# Altium footprint library Inductors.PcbLib: 24 footprints (part 2 of 2)
Each footprint in its own frame and in the unit in brackets; x right, y up, seen from the top. Pads: shape width x height; smd on the part's side, far side on the other; paste and mask are expansions set on the pad; w line width, h text height; cw(c..) or ccw(c..) is an arc to the next point about the centre after c.
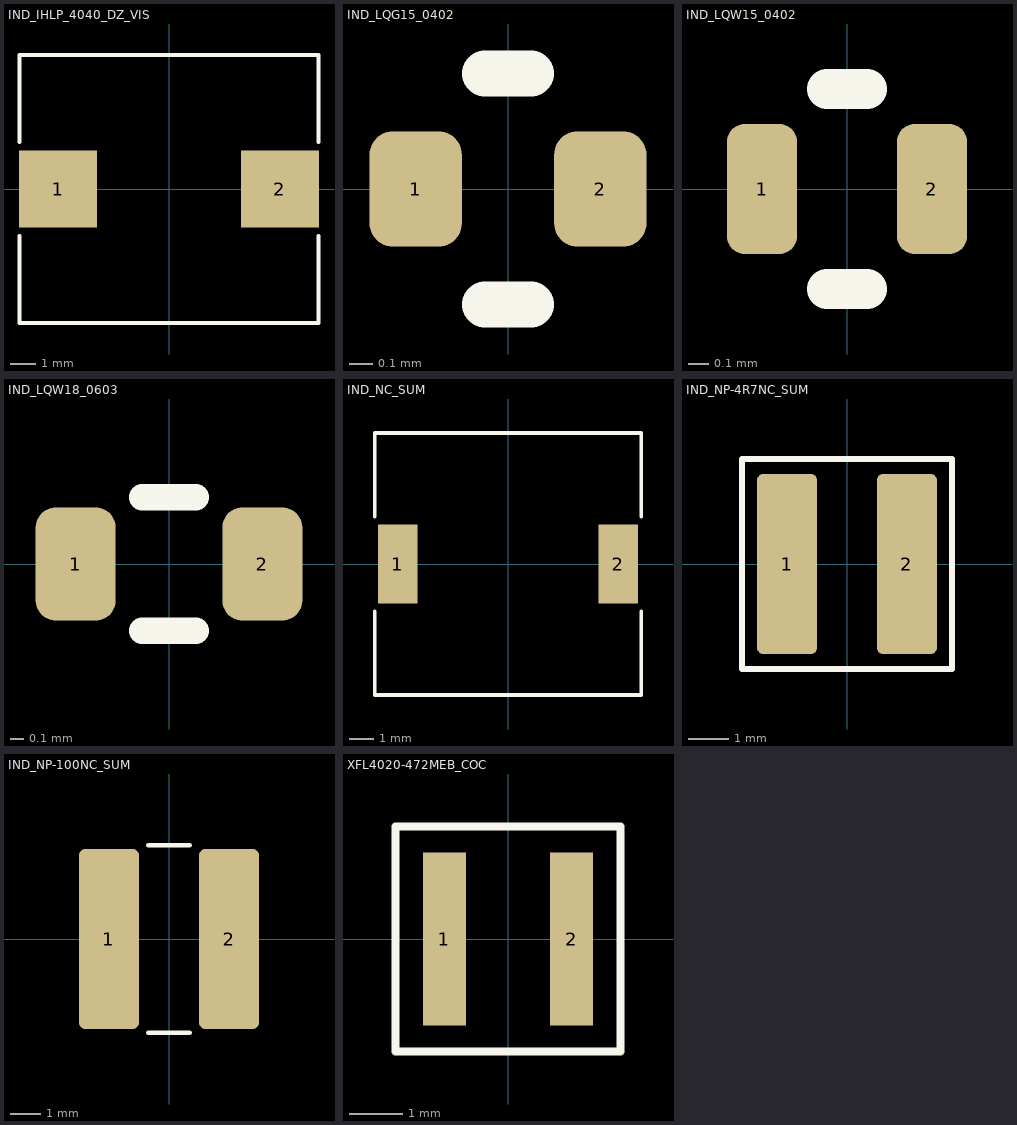
[diagram p1: the footprints below, top view; thin cyan lines are the x and y axes]

## IND_IHLP_4040_DZ_VIS [mil]
pads (2):
  rect 121x119 smd paste+0 mask+0: 1(-172,0) 2(172,0)
Top Overlay:
  lines w6: -231.5,-72.6 -231.5,-207.5 231.5,-207.5 231.5,-72.6 ; -231.5,72.6 -231.5,207.5 231.5,207.5 231.5,72.6
3D body "IND_IHLP_4040_DZ_VIS.step": height 160, standoff 0, extent -226.49,-202.48 226.5,202.48

## IND_LQG15_0402 [mm]
pads (2):
  rrect50% 0.4x0.5 smd: 1(-0.4,0) 2(0.4,0)
Top Overlay:
  lines w0.2: -0.1,-0.5 0.1,-0.5 ; -0.1,0.5 0.1,0.5
3D body "BLM15BB750SN1D.STEP": height 0.55, standoff 0, extent -0.5,-0.25 0.5,0.25

## IND_LQW15_0402 [mm]
pads (2):
  rrect50% 0.35x0.65 smd: 1(-0.425,0) 2(0.425,0)
Top Overlay:
  lines w0.2: -0.1,-0.5 0.1,-0.5 ; -0.1,0.5 0.1,0.5
3D body "LQW15AN47NG00D.STEP": height 0.6, standoff 0, extent -0.5,-0.25 0.5,0.25

## IND_LQW18_0603 [mm]
pads (2):
  rrect50% 0.6x0.85 smd: 1(-0.7,0) 2(0.7,0)
Top Overlay:
  lines w0.2: -0.2,-0.5 0.2,-0.5 ; -0.2,0.5 0.2,0.5
3D body "LQW18ANR15G00D.STEP": height 1, standoff 0, extent -0.8,-0.4 0.8,0.4

## IND_NC_SUM [mil]
pads (2):
  rect 63x126 smd paste+0 mask+0: 1(-175,0) 2(175,0)
Top Overlay:
  lines w6: -211.5,-75.11 -211.5,-208 211.5,-208 211.5,-75.11 ; -211.5,75.11 -211.5,208 211.5,208 211.5,75.11
3D body "IND_NC_SUM.step": height 157.01, standoff 0, extent -206.49,-203.11 206.5,203.11

## IND_NP-4R7NC_SUM [mm]
pads (2):
  rrect20% 1.5x4.5 smd: 1(-1.499,0) 2(1.499,0)
Top Overlay:
  lines w0.152: -2.629,-2.629 -2.629,2.629 2.629,2.629 2.629,-2.629 -2.629,-2.629
3D body: height 2.8, standoff 0, extent -2.5,-2.5 2.5,2.5
3D body "IND_NP-4R7NC_SUM.step": height 2.1, standoff 0, extent -2.807,-2.248 2.807,2.248

## IND_NP-100NC_SUM [mil]
pads (2):
  rrect20% 78.63x236 smd: 1(-78.69,0) 2(78.69,0)
Top Overlay:
  lines w6: -27.26,-123 27.26,-123 ; -27.26,123 27.26,123
3D body "IND_NP-100NC_SUM.step": height 118.11, standoff -0.12, extent -117.99,-118.1 118,118.12

## XFL4020-472MEB_COC [mil]
pads (2):
  rect 32x128 smd paste+0 mask+0: 1(-47.19,0) 2(47.19,0)
Top Overlay:
  lines w6: -83.5,-83.5 -83.5,83.5 83.5,83.5 83.5,-83.5 -83.5,-83.5
3D body "XFL4020-472MEB_COC.step": height 82.09, standoff 0, extent -78.5,-78.5 78.5,78.5